# EAGLE library part DS4432U+ (library RatDBS)
DS4432U+ current DAC
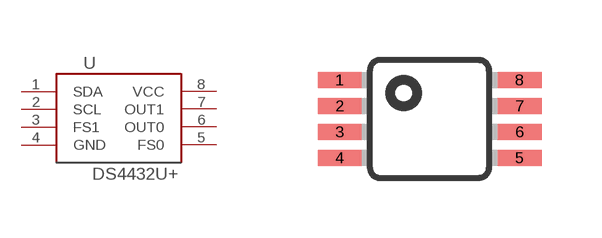
[diagram p0: symbol with the pads of 8_PIN; footprint 8_PIN]

Designator prefix -

## DS4432U+  [8_PIN]
1  SDA
2  SCL
3  FS1
4  GND  pwr
5  FS0
6  OUT0
7  OUT1
8  VCC  pwr

## Footprint 8_PIN (pad centres in mm)
smd 1.1 x 0.4: 1 -2.25,0.975; 2 -2.25,0.325; 3 -2.25,-0.325; 4 -2.25,-0.975; 5 2.25,-0.975; 6 2.25,-0.325; 7 2.25,0.325; 8 2.25,0.975